# Altium footprint library Footprints.PcbLib: 22 footprints (part 2 of 2)
Each footprint in its own frame and in the unit in brackets; x right, y up, seen from the top. Pads: shape width x height; smd on the part's side, far side on the other; paste and mask are expansions set on the pad; w line width, h text height; cw(c..) or ccw(c..) is an arc to the next point about the centre after c.
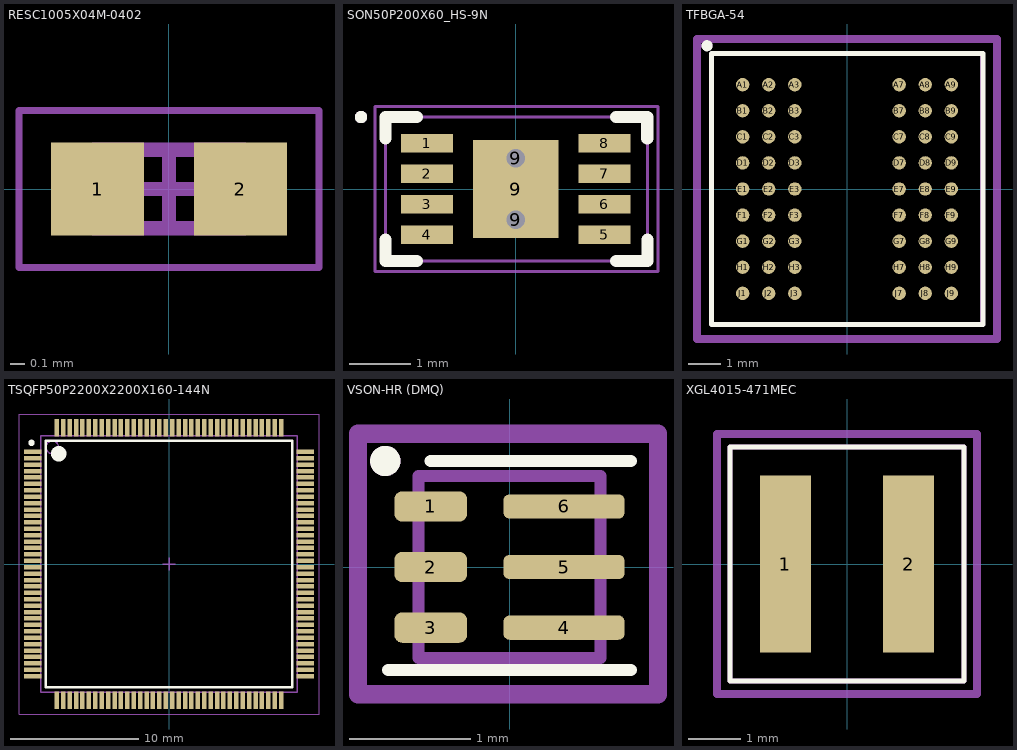
[diagram p1: the footprints below, top view; thin cyan lines are the x and y axes]

## RESC1005X04M-0402 [mm] "Chip Resistor, 2-Leads, Body 1.00x0.50mm, IPC Low Density"
height 0.4
pads (2):
  rect 0.65x0.65 smd: 1(-0.5,0) 2(0.5,0)
Top Courtyard (Mech14):
  lines w0.05: -1.05,-0.55 1.05,-0.55 1.05,0.55 -1.05,0.55 -1.05,-0.55
  lines w0.1: -0.275,0 0.275,0 ; 0,-0.275 0,0.275
Top Assembly:
  lines w0.1: -0.525,-0.275 0.525,-0.275 0.525,0.275 -0.525,0.275 -0.525,-0.275
  text ".Designator" at -0.775,-0.1 h0.4
3D body: height 0.4, standoff 0, extent 0.325,-0.275 0.525,0.275
3D body: height 0.4, standoff 0, extent -0.525,-0.275 -0.325,0.275
3D body: height 0.4, standoff 0, extent -0.325,-0.275 0.325,0.275

## SON50P200X60_HS-9N [mm] "SON, 8-Leads, Body 3.00x2.00mm, Pitch 0.50mm, Thermal Pad 1.50x0.68mm, IPC Medium Density"
height 0.6
pads (11):
  rect 0.85x0.3 smd: 1(-1.45,0.75) 2(-1.45,0.25) 3(-1.45,-0.25) 4(-1.45,-0.75) 5(1.45,-0.75) 6(1.45,-0.25) 7(1.45,0.25) 8(1.45,0.75)
  round 0.5 hole 0.3 mask+0.102: 9(0,-0.5) 9(0,0.5)
  rect 1.4x1.6 smd paste-0.1: 9(0,0)
Top Overlay:
  circle w0.1: c-2.525,1.175 r0.05
  lines w0.2: -2.125,-0.825 -2.125,-1.175 -1.615,-1.175 ; -2.125,0.825 -2.125,1.175 -1.615,1.175 ; 1.64,1.175 2.15,1.175 2.15,0.825 ; 1.645,-1.175 2.155,-1.175 2.155,-0.825
Top Courtyard (Mech14):
  lines w0.05: -2.3,-1.35 2.325,-1.35 2.325,1.35 -2.3,1.35 -2.3,-1.35
Top Assembly:
  circle w0.1: c-2.525,1.175 r0.05
  lines w0.05: -2.125,-1.175 -2.125,1.175 2.15,1.175 2.155,1.17 2.155,-1.175 -2.125,-1.175
  text ".Designator" at -0.775,-0.1 h0.4
3D body "UDFN8_2x3MC_MCH.step": height 0.48, standoff 0, extent -1.525,-1.025 1.525,1.025

## TFBGA-54 [mm]
pads (54):
  round 0.41 smd paste-2539.97 mask+0.102: A1(-3.2,3.2) A2(-2.4,3.2) A7(1.6,3.2) A8(2.4,3.2) A9(3.2,3.2) B1(-3.2,2.4) B2(-2.4,2.4) B3(-1.6,2.4) B7(1.6,2.4) B8(2.4,2.4) B9(3.2,2.4) C1(-3.2,1.6) C2(-2.4,1.6) C3(-1.6,1.6) C7(1.6,1.6) C8(2.4,1.6) C9(3.2,1.6) D1(-3.2,0.8) D2(-2.4,0.8) D3(-1.6,0.8) D7(1.6,0.8) D8(2.4,0.8) D9(3.2,0.8) E1(-3.2,0) E2(-2.4,0) E3(-1.6,0) E7(1.6,0) E8(2.4,0) E9(3.2,0) F1(-3.2,-0.8) F2(-2.4,-0.8) F3(-1.6,-0.8) F7(1.6,-0.8) F8(2.4,-0.8) F9(3.2,-0.8) G1(-3.2,-1.6) G2(-2.4,-1.6) G3(-1.6,-1.6) G7(1.6,-1.6) G8(2.4,-1.6) G9(3.2,-1.6) H1(-3.2,-2.4) H2(-2.4,-2.4) H3(-1.6,-2.4) H7(1.6,-2.4) H8(2.4,-2.4) H9(3.2,-2.4) J1(-3.2,-3.2) J2(-2.4,-3.2) J3(-1.6,-3.2) J7(1.6,-3.2) J8(2.4,-3.2) J9(3.2,-3.2)
  round 0.41 smd mask+0.102: A3(-1.6,3.2)
Top Overlay:
  circle w0.21: c-4.291,4.393 r0.065
  lines w0.15: -4.15,-4.15 4.175,-4.15 4.175,4.15 -4.15,4.15 -4.15,-4.15
Top Courtyard (Mech14):
  lines w0.254: -4.6,-4.6 4.6,-4.6 4.6,4.6 -4.6,4.6 -4.6,-4.6
Top Assembly:
  circle w0.21: c-4.3,4.4 r0.065
  lines w0.05: -4.1,-4.1 -4.1,4.1 4.1,4.1 4.1,-4.1 -4.1,-4.1
  text ".Designator" at -2.8,-0.225 h1.5
3D body: height 1.2, standoff 1, extent -3.301,3.095 -3.101,3.295
3D body "BGA54_IS42S16800F-6BLI_ISI.step": height 1.2, standoff 0, extent -4.051,-4.051 4.051,4.051

## TSQFP50P2200X2200X160-144N [mm] "TSQFP, 144-Leads, Body 20.00x20.00mm, Pitch 0.50mm, IPC Medium Density"
height 1.6
pads (144):
  rect 1.35x0.35 smd: 1(-10.625,8.75) 2(-10.625,8.25) 3(-10.625,7.75) 4(-10.625,7.25) 5(-10.625,6.75) 6(-10.625,6.25) 7(-10.625,5.75) 8(-10.625,5.25) 9(-10.625,4.75) 10(-10.625,4.25) 11(-10.625,3.75) 12(-10.625,3.25) 13(-10.625,2.75) 14(-10.625,2.25) 15(-10.625,1.75) 16(-10.625,1.25) 17(-10.625,0.75) 18(-10.625,0.25) 19(-10.625,-0.25) 20(-10.625,-0.75) 21(-10.625,-1.25) 22(-10.625,-1.75) 23(-10.625,-2.25) 24(-10.625,-2.75) 25(-10.625,-3.25) 26(-10.625,-3.75) 27(-10.625,-4.25) 28(-10.625,-4.75) 29(-10.625,-5.25) 30(-10.625,-5.75) 31(-10.625,-6.25) 32(-10.625,-6.75) 33(-10.625,-7.25) 34(-10.625,-7.75) 35(-10.625,-8.25) 36(-10.625,-8.75) 73(10.625,-8.75) 74(10.625,-8.25) 75(10.625,-7.75) 76(10.625,-7.25) 77(10.625,-6.75) 78(10.625,-6.25) 79(10.625,-5.75) 80(10.625,-5.25) 81(10.625,-4.75) 82(10.625,-4.25) 83(10.625,-3.75) 84(10.625,-3.25) 85(10.625,-2.75) 86(10.625,-2.25) 87(10.625,-1.75) 88(10.625,-1.25) 89(10.625,-0.75) 90(10.625,-0.25) 91(10.625,0.25) 92(10.625,0.75) 93(10.625,1.25) 94(10.625,1.75) 95(10.625,2.25) 96(10.625,2.75) 97(10.625,3.25) 98(10.625,3.75) 99(10.625,4.25) 100(10.625,4.75) 101(10.625,5.25) 102(10.625,5.75) 103(10.625,6.25) 104(10.625,6.75) 105(10.625,7.25) 106(10.625,7.75) 107(10.625,8.25) 108(10.625,8.75)
  rect 0.35x1.35 smd: 37(-8.75,-10.625) 38(-8.25,-10.625) 39(-7.75,-10.625) 40(-7.25,-10.625) 41(-6.75,-10.625) 42(-6.25,-10.625) 43(-5.75,-10.625) 44(-5.25,-10.625) 45(-4.75,-10.625) 46(-4.25,-10.625) 47(-3.75,-10.625) 48(-3.25,-10.625) 49(-2.75,-10.625) 50(-2.25,-10.625) 51(-1.75,-10.625) 52(-1.25,-10.625) 53(-0.75,-10.625) 54(-0.25,-10.625) 55(0.25,-10.625) 56(0.75,-10.625) 57(1.25,-10.625) 58(1.75,-10.625) 59(2.25,-10.625) 60(2.75,-10.625) 61(3.25,-10.625) 62(3.75,-10.625) 63(4.25,-10.625) 64(4.75,-10.625) 65(5.25,-10.625) 66(5.75,-10.625) 67(6.25,-10.625) 68(6.75,-10.625) 69(7.25,-10.625) 70(7.75,-10.625) 71(8.25,-10.625) 72(8.75,-10.625) 109(8.75,10.625) 110(8.25,10.625) 111(7.75,10.625) 112(7.25,10.625) 113(6.75,10.625) 114(6.25,10.625) 115(5.75,10.625) 116(5.25,10.625) 117(4.75,10.625) 118(4.25,10.625) 119(3.75,10.625) 120(3.25,10.625) 121(2.75,10.625) 122(2.25,10.625) 123(1.75,10.625) 124(1.25,10.625) 125(0.75,10.625) 126(0.25,10.625) 127(-0.25,10.625) 128(-0.75,10.625) 129(-1.25,10.625) 130(-1.75,10.625) 131(-2.25,10.625) 132(-2.75,10.625) 133(-3.25,10.625) 134(-3.75,10.625) 135(-4.25,10.625) 136(-4.75,10.625) 137(-5.25,10.625) 138(-5.75,10.625) 139(-6.25,10.625) 140(-6.75,10.625) 141(-7.25,10.625) 142(-7.75,10.625) 143(-8.25,10.625) 144(-8.75,10.625)
Top Overlay:
  circle w0.25: c-10.725,9.45 r0.125
  circle w0.6: c-8.6,8.6 r0.3
  lines w0.2: -9.6,-9.6 -9.6,9.6 9.6,9.6 9.6,-9.6 -9.6,-9.6
Top Courtyard (Mech14):
  lines w0.05: -11.7,-11.7 -11.7,11.7 11.7,11.7 11.7,-11.7 -11.7,-11.7
  lines w0.1: -0.5,0 0.5,0 ; 0,-0.5 0,0.5
Top Assembly:
  circle w0.1: c-9.1,9.1 r0.5
  lines w0.1: -10,-10 -10,10 10,10 10,-10 -10,-10
  text ".Designator" at -5.275,-0.6 h3
3D body "LQFP144-20x20mm.step": height 1.6, standoff 0, extent -10.948,-10.948 10.948,10.948

## VSON-HR (DMQ) [mm]
pads (6):
  rrect50% 0.6x0.25 smd mask+0.05: 1(-0.65,0.5) 2(-0.65,0) 3(-0.65,-0.5)
  rrect50% 1x0.2 smd paste-2539.97 mask+0.05: 4(0.45,-0.5) 5(0.45,0) 6(0.45,0.5)
Top Overlay:
  circle w0.15: c-1.025,0.875 r0.05
  lines w0.1: -1,-0.85 1,-0.85 ; -0.65,0.875 1,0.875
Top Paste:
  circle w0.05: c0.9,-0.55 r0.025
  circle w0.05: c0.9,-0.45 r0.025
  circle w0.05: c0.15,-0.55 r0.025
  circle w0.05: c0.15,-0.45 r0.025
  circle w0.05: c0.9,-0.05 r0.025
  circle w0.05: c0.9,0.05 r0.025
  circle w0.05: c0.15,-0.05 r0.025
  circle w0.05: c0.15,0.05 r0.025
  circle w0.05: c0.9,0.45 r0.025
  circle w0.05: c0.9,0.55 r0.025
  circle w0.05: c0.15,0.45 r0.025
  circle w0.05: c0.15,0.55 r0.025
  region: 0.1,-0.45 0.15,-0.4 0.9,-0.4 0.95,-0.45 0.95,-0.55 0.9,-0.6 0.15,-0.6 0.1,-0.55
  region: 0.1,0.05 0.15,0.1 0.9,0.1 0.95,0.05 0.95,-0.05 0.9,-0.1 0.15,-0.1 0.1,-0.05
  region: 0.1,0.55 0.15,0.6 0.9,0.6 0.95,0.55 0.95,0.45 0.9,0.4 0.15,0.4 0.1,0.45
Top Courtyard (Mech14):
  lines w0.15: -1.25,-1.05 1.225,-1.05 1.225,1.1 -1.25,1.1 -1.25,-1.05
Top Assembly:
  circle w0.15: c-1.025,0.875 r0.05
  lines w0.1: -0.75,-0.75 0.75,-0.75 0.75,0.75 -0.75,0.75 -0.75,-0.75
  text ".Designator" at -0.65,-0.075 h0.35
3D body "DMQ0006A.stp": height 1.01, standoff 0.01, extent -0.75,-0.75 0.75,0.75

## XGL4015-471MEC [mm]
pads (2):
  rect 0.98x3.4 smd mask+0.05: 1(-1.185,0) 2(1.185,0)
Top Overlay:
  lines w0.1: -2.25,-2.25 2.25,-2.25 2.25,2.25 -2.25,2.25 -2.25,-2.25
Top Courtyard (Mech14):
  lines w0.15: -2.5,-2.5 2.5,-2.5 2.5,2.5 -2.5,2.5 -2.5,-2.5
Top Assembly:
  lines w0.1: -2.25,-2.25 2.25,-2.25 2.25,2.25 -2.25,2.25 -2.25,-2.25
  text ".Designator" at -1.3,-0.125 h0.7
3D body "IND_XGL4015_COC.step": height 1.51, standoff 0.01, extent -2.146,-2.146 2.146,2.146